# Altium schematic symbol library ANALOGDEVICES_VOLOSCHUK.SchLib: 4 symbols
Pins are listed as number, name and electrical type; pins without a type are passive.

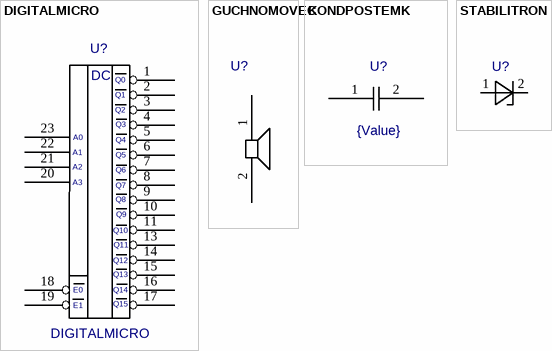
[diagram p0: symbols DIGITALMICRO to STABILITRON]

## DIGITALMICRO
designator U?
Value: *
footprint MICROSCHEME
pins: 1, 2, 3, 4, 5, 6, 7, 8, 9, 10, 11, 12 GND (power) hidden, 13, 14, 15, 16, 17, 18, 19, 20, 21, 22, 23, 24 Vcc (power) hidden
text: Q0; DC; Q1; Q2; Q3; A0; Q4; A1; Q5; A2; Q6; A3; Q7; Q8; Q9; Q10; Q11; Q12; Q13; E0; Q14; E1; Q15

## GUCHNOMOVEC
designator U?  (value not drawn)
Value: *
footprint GUCHNOMOVEC
pins: 1, 2

## KONDPOSTEMK
designator U?  value {Value}  (hidden comment: *)
footprint KM6A
pins: 1, 2

## STABILITRON
designator U?  (value not drawn)
Value: *
footprint KC147A
pins: 1, 2